# Altium schematic symbol library Resistor.SchLib: 141 symbols (part 4 of 4)
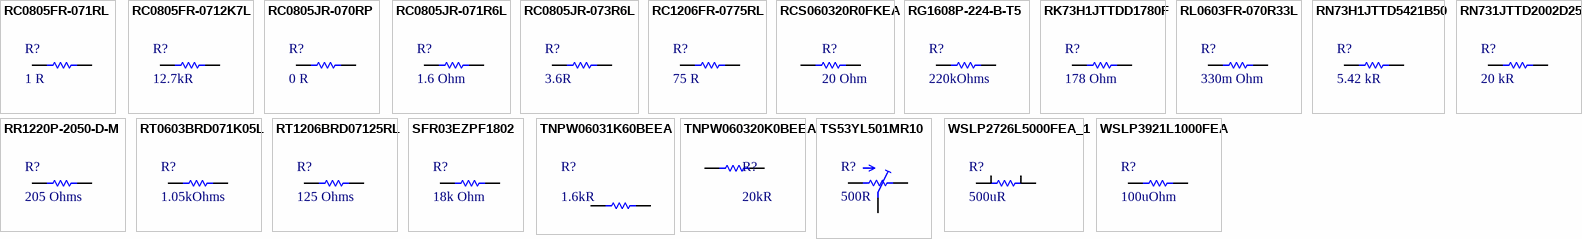
[diagram p6: symbols RC0805FR-071RL to WSLP3921L1000FEA]

## RC0805JR-073R6L
designator R?, comment 3.6R
RES SMD 3.6 OHM 5% 1/8W 0805; Manufacturer: Yageo; Part Number: RC0805JR-073R6L; Temperature Coefficient: 200 PPM / C; Power Rating: 125 mW (1/8 W); Voltage Rating: 150 V; Library Control - Checked Footprint: Yes; Library Control - Person that Checked Footprint: Nikaum; Library Control - Person that Checked Schematic: Guilherme; Library Control - Person that did the Last Update Footprint: Dalarme; Supplier 1: Mouser; Category: Thick Film Resistors - SMD; Price: 1=0,22, 10=0,052, 100=0,018 (USD); Package / Case: 0805 (2012 Metric); Operating Temperature: - 55ºC ~ 155ºC; Value: 3.6R; Tolerance: 5 %; Library Ref: Resistor; Resistor Type: Fixed; Size / Dimension: 2 mm L x  1.25 mm W x  0.5 mm H; Supplier Part Number 1: 603-RC0805JR-073R6L; Library Control - Checked Schematic: Yes; Library Control - Last Update: 27/06/2021; Library Control - Person that did the Last Update Schematic: Dalarme; ComponentLink1Description: Mouser Link; ComponentLink1URL: https://br.mouser.com/ProductDetail/Yageo/RC0805JR-073R6L?qs=%2Fha2pyFadug6QMX%2FAz0gg6vDQGdS7CAkCQQPGuSvuCE1NeYb1xSVR9wH6bdWx1Yz; ComponentLink2Description: Datasheet; ComponentLink2URL: https://br.mouser.com/datasheet/2/447/Yageo_03_18_2021_PYu_RC_Group_51_RoHS_L_11-2199992.pdf
footprint RESISTOR_0805
pins: 1, 2

## RC1206FR-0775RL
designator R?, comment 75 R
RES SMD 75 OHM 1% 1/4W 1206; Manufacturer: Yageo; Part Number: RC1206FR-0775RL; Temperature Coefficient: 100 PPM / C; Power Rating: 250mW (1/4 W); Voltage Rating: 200 V; Library Control - Checked Footprint: Yes; Library Control - Person that Checked Footprint: Nikaum; Library Control - Person that did the Last Update Footprint: Nicolas; Supplier 1: Mouser; Category: Thick Film Resistors - SMD; Price: 1 = 0,10, 10 = 0,054, 100 = 0,021 (USD); Package / Case: 1206 (3216 metric); Operating Temperature: - 55 C~155 C; Value: 75 R; Tolerance: 1 %; Library Ref: Resistor; Resistor Type: Fixo; Size / Dimension: 3,10 L x 1,60 W x 0,55 H; Supplier Part Number 1: 603-RC1206FR-0775RL; Library Control - Checked Schematic: Yes; Library Control - Last Update: 27/06/2021 21:20; Library Control - Person that Checked Schematic: Nikaum; Library Control - Person that did the Last Update Schematic: Nikaum; ComponentLink1Description: Mouser Link; ComponentLink1URL: https://br.mouser.com/ProductDetail/Yageo/RC1206FR-0775RL?qs=afJZr%2F7kGG4KmMC4hsrAjg%3D%3D; ComponentLink2Description: Datasheet Link; ComponentLink2URL: https://www.mouser.com/datasheet/2/447/Yageo_03_18_2021_PYu_RC_Group_51_RoHS_L_11-2199992.pdf
footprint RESISTOR_1206
pins: 1, 2

## RCS060320R0FKEA
designator R?, comment 20 Ohm
RES SMD 20 OHM 1% 1/4W 0603; Manufacturer: Vishay Dale; Manufacturer Part Number: RCS060320R0FKEA; Value: 20R; Max Power Dissipation: 250mW; Temperature Coefficient: 100ppm/°C; Supplier: Mouser; Supplier Part Number: 71-RCS060320R0FKEA; RoHS: Yes; Category: Chip SMD Resistors; Stock: 4900; Pricing: 1=0,13, 10=0,043, 50=0,043, 100=0,026, 1000=0,022, 10000=0,013 (USD); Case/Package: 0603; Case Code (Imperial): 0603; Case Code (Metric): 1608; Min Operating Temperature: -55°C; Max Operating Temperature: 155°C; Package Quantity: 5000; Packaging: Tape and Reel; Number of Terminations: 2; Tolerance: 1%; Features: Automotive AEC-Q200; Series: RCS e3; Length: 0.061inch; Width: 0.033inch; Height: 0.02inch; Ratings: AEC-Q200; ComponentLink1URL: http://www.vishay.com/docs/20065/rcse3.pdf?src-supplier=Digi-Key; ComponentLink1Description: http://www.vishay.com/docs/20065/rcse3.pdf?src-supplier=Digi-Key; ComponentLink2Description: Mouser; ComponentLink2URL: https://br.mouser.com/ProductDetail/Vishay-Dale/RCS060320R0FKEA?qs=sGAEpiMZZMtlubZbdhIBIE5LhqqS5SwHHwPKvfa8Ams%3D
footprint RESISTOR_0603
pins: 1, 2

## RG1608P-224-B-T5
designator R?, comment 220kOhms
RES SMD 220 kOHMS 0,1% 1/10W 0603; Manufacturer: Susumu; Part Number: RG1608P-224-B-T5; Tolerance: 0,1 %; Temperature Coefficient: 25 PPM / C; Power Rating: 100 mW (1/10 W); Voltage Rating: 100 V; Library Control - Checked Footprint: Yes; Library Control - Person that Checked Footprint: Guilherme; Library Control - Person that did the Last Update Footprint: Stéfany (Ster); Supplier 1: Mouser; Category: Thick Film Resistors - SMD; Price: 1=0,36, 10=0,261, 100=0,107(USD); Package / Case: 0603 (1608 Metric); Operating Temperature: - 55°C ~ 155°C; Value: 220kOhms; Library Ref: Resistor; Resistor Type: Fixo; Size / Dimension: 1,6 L x 0,8 W x 0,4 H; Supplier Part Number 1: 754-RG1608P-224-BT5; Library Control - Checked Schematic: Yes; Library Control - Last Update: 06/09/2021 23:26; Library Control - Person that Checked Schematic: Guilherme; Library Control - Person that did the Last Update Schematic: Guilherme; ComponentLink1Description: Mouser Link; ComponentLink1URL: https://br.mouser.com/ProductDetail/Susumu/RG1608P-224-B-T5?qs=%2Fha2pyFadugGZ8qiVjKZw3%2FyFcS5dmvF9YguiNF8xC%252BJU8zG6Xddcw%3D%3D; ComponentLink2Description: Datasheet; ComponentLink2URL: https://br.mouser.com/datasheet/2/392/n_catalog_partition01_en-1140338.pdf
footprint RESISTOR_0603
pins: 1, 2

## RK73H1JTTDD1780F
designator R?, comment 178 Ohm
RES SMD 178 OHM 1% 1/10W 0603; Manufacturer: KOA Speer; Part Number: RK73H1JTTDD1780F; Temperature Coefficient: 200 PPM / C; Power Rating: 100 mW (1/10 W); Voltage Rating: 75 V; Supplier 1: Mouser; Category: Thick Film Resistors - SMD; Price: 1=0,1000, 10=0,0360, 100=0,0120 1000=0,008(USD); Package / Case: 0603 (1608 Metric); Operating Temperature: - 55ºC ~ 155ºC; Value: 178 Ohm; Tolerance: 1%; Library Ref: Resistor; Resistor Type: Fixo; Size / Dimension: 1.6 mm L x  0.8 mm W x  0.45 mm H; Supplier Part Number 1: 660-RK73H1JTTDD1780F; ComponentLink1Description: Mouser Link; ComponentLink1URL: https://br.mouser.com/ProductDetail/KOA-Speer/RK73H1JTTDD1780F?qs=sGAEpiMZZMtlubZbdhIBICPveXeF%252BPGk0gMQ9NztAk8%3D; ComponentLink2Description: Datasheet Link; ComponentLink2URL: https://br.mouser.com/datasheet/2/219/RK73H-1825326.pdf
footprint RESISTOR_0603
pins: 1, 2

## RL0603FR-070R33L
designator R?, comment 330m Ohm
RES SMD 330m OHM 1% 1/10 W 0603; Manufacturer: YAGEO; Part Number: RL0603FR-070R33L; Temperature Coefficient: 800 PPM/C; Power Rating: 1/10 W; Library Control - Person that did the Last Update Footprint: Breno (Omega); Supplier 1: Mouser; Category: Current Sense Resistor; Price: 1 = 0.32, 10 = 0.272, 100 = 0.108(USD); Package / Case: 0603; Operating Temperature: -55°C ~ 155°C; Value: 330m Ohm; Tolerance: 1%; Library Ref: Resistor; Resistor Type: Fixo; Size / Dimension: 0.8mm x 1.6mm x 0.45mm; Supplier Part Number 1: 603-RL0603FR-070R33L; Library Control - Person that did the Last Update Schematic: Breno (Omega); ComponentLink1Description: Mouser Link; ComponentLink1URL: https://br.mouser.com/ProductDetail/YAGEO/RL0603FR-070R33L?qs=BXCcY9r%252B08C6ACa%252BFqk%252BgA%3D%3D; ComponentLink2Description: Datasheet; ComponentLink2URL: https://br.mouser.com/datasheet/2/447/PYu_RL_Group_521_RoHS_L_2-3002987.pdf
footprint RESISTOR_0603
pins: 1, 2

## RN73H1JTTD5421B50
designator R?, comment 5.42 kR
RES SMD 5,42K OHM  0.1% 1/10W 0603; Manufacturer: KOA Speer; Part Number: RN73H1JTTD5421B50; Tolerance: 0,1 %; Temperature Coefficient: 25 PPM / C; Power Rating: 100 mW (1/10 W); Voltage Rating: 75 V; Library Control - Checked Footprint: Yes; Library Control - Person that Checked Footprint: Gustavo Rodrigues; Supplier 1: Mouser; Category: Thick Film Resistors - SMD; Price: 1 = 0.51 , 10 = 0.368, 100 = 0.191 (USD); Package / Case: 0603 (1608 metric); Operating Temperature: -55°C~155°C; Value: 5.42 kR; Library Ref: Resistor; Resistor Type: Fixed; Size / Dimension: 1,55 L x 0,85 W x 0,45 H (mm); Supplier Part Number 1: 660-RN73H1JTD5421B50; Library Control - Checked Schematic: Yes; Library Control - Last Update: 07/10/2022 17:00; ComponentLink1Description: Mouser Link; ComponentLink1URL: https://br.mouser.com/ProductDetail/KOA-Speer/RN731JTTD2002D25?qs=%2Fha2pyFaduhnBZUr2iTGjf%252BDke4dVhJBN0JQvxcPlMafiohhH7zmdQ%3D%3D; ComponentLink2Description: Datasheet Link; ComponentLink2URL: https://br.mouser.com/datasheet/2/219/KOA_Speer_RN73__1_-1894048.pdf
footprint RESISTOR_0603
pins: 1, 2

## RN731JTTD2002D25
designator R?, comment 20 kR
RES SMD 20K OHM 0,5% 1/16W 0603; Manufacturer: KOA Speer; Part Number: RN731JTTD2002D25; Tolerance: 0,5 %; Temperature Coefficient: 25 PPM / C; Power Rating: 62.5mW (1/16 W); Voltage Rating: 75 V; Library Control - Checked Footprint: Yes; Library Control - Person that Checked Footprint: Stéfany (Ster); Library Control - Person that did the Last Update Footprint: Maria Laura; Supplier 1: Mouser; Category: Thick Film Resistors - SMD; Price: 1 = 0,15, 10 = 0,114, 100 = 0,089 (USD); Package / Case: 0603 (1608 metric); Operating Temperature: -55°C~155°C; Value: 20 kR; Library Ref: Resistor; Resistor Type: Fixed; Size / Dimension: 1,55 L x 0,85 W x 0,45 H (mm); Supplier Part Number 1: 660-RN731JTTD2002D25; Library Control - Checked Schematic: Yes; Library Control - Last Update: 15/08/2021 14:46; Library Control - Person that Checked Schematic: Stéfany (Ster); Library Control - Person that did the Last Update Schematic: Maria Laura; ComponentLink1Description: Mouser Link; ComponentLink1URL: https://br.mouser.com/ProductDetail/KOA-Speer/RN731JTTD2002D25?qs=%2Fha2pyFaduhnBZUr2iTGjf%252BDke4dVhJBN0JQvxcPlMafiohhH7zmdQ%3D%3D; ComponentLink2Description: Datasheet Link; ComponentLink2URL: https://br.mouser.com/datasheet/2/219/KOA_Speer_RN73__1_-1894048.pdf
footprint RESISTOR_0603
pins: 1, 2

## RR1220P-2050-D-M
designator R?, comment 205 Ohms
RES SMD 205 OHM 0.5% 1/10 W 0805; Manufacturer: Susumu; Part Number: RR1220P-2050-D-M; Tolerance: 1/2 %; Temperature Coefficient: 25 PPM / C; Power Rating: 100 mW (1/10 W); Voltage Rating: 100V; Library Control - Checked Footprint: Yes; Supplier 1: Mouser; Category: Thick Film Resistors - SMD; Price: 1=0,10, 10=0,024, 100=0,014 (USD); Package / Case: 0805 (2012 Metric); Operating Temperature: - 55°C ~ 155°C; Value: 205 Ohms; Library Ref: Resistor; Resistor Type: Fixo; Size / Dimension: 2,00 L x 1,25 W x 0,50 H; Supplier Part Number 1: 754-RR1220P-2050D-M; Library Control - Checked Schematic: Yes; ComponentLink1Description: Mouser Link; ComponentLink1URL: https://br.mouser.com/ProductDetail/Susumu/RR1220P-2050-D-M?qs=U7dmUkNviFvSGPLn2FAydw%3D%3D; ComponentLink2Description: Datasheet; ComponentLink2URL: https://br.mouser.com/datasheet/2/392/susumu_RR_Data_Sheet-1206438.pdf
footprint RESISTOR_0805
pins: 1, 2

## RT0603BRD071K05L
designator R?, comment 1.05kOhms
RES SMD 1.05K ohm 1% 1/10W 0603; Manufacturer: YAGEO; Part Number: RT0603BRD071K05L; Temperature Coefficient: 25 PPM / C; Power Rating: 100 mW (1/10 W); Voltage Rating: 75 V; Library Control - Checked Footprint: Yes; Library Control - Person that Checked Footprint: Firme; Supplier 1: Mouser; Category: Thick Film Resistors - SMD; Price: 1=0,33, 10=0,274, 100=0,108(USD); Package / Case: 0603 (1608 Metric); Operating Temperature: - 55°C ~ 155°C; Value: 1.05kOhms; Tolerance: 1 %; Library Ref: Resistor; Resistor Type: Fixo; Size / Dimension: 1,6 L x 0,8 W x 0,45 H; Supplier Part Number 1: 603-RT0603BRD071K05L; Library Control - Checked Schematic: Yes; Library Control - Last Update: 16/08/2022 16:13; Library Control - Person that Checked Schematic: Firme; Library Control - Person that did the Last Update Footprint: Firme; Library Control - Person that did the Last Update Schematic: Firme; ComponentLink1Description: Mouser Link; ComponentLink1URL: https://br.mouser.com/ProductDetail/YAGEO/RT0603BRD071K05L?qs=gY0y7AQI9SNBiwMGD44S2g%3D%3D; ComponentLink2Description: Datasheet; ComponentLink2URL: https://br.mouser.com/datasheet/2/447/PYu_RT_1_to_0_01_RoHS_L_12-3003070.pdf
footprint RESC1608X55N
pins: 1, 2

## RT1206BRD07125RL
designator R?, comment 125 Ohms
RES SMD 125 Ohms 1% 1/4W 1206; Manufacturer: Yageo; Part Number: RT1206BRD07125RL; Tolerance: 0.1%; Temperature Coefficient: 100 PPM / C; Power Rating: 250 mW (1/4 W); Voltage Rating: 200 V; Library Control - Person that did the Last Update Footprint: Marcos; Supplier 1: Mouser; Category: Thin Film Resistors - SMD; Price: 1=0,57, 10=0,314, 100=0,145 1000=0,113 (USD); Package / Case: 1206 (3216 Metric); Operating Temperature: - 55ºC ~ 155ºC; Value: 125 Ohms; Library Ref: Resistor; Resistor Type: Fixo; Size / Dimension: 3,1 mm L x 1,6 mm W x 0,55 mm H; Supplier Part Number 1: 603-RT1206BRD07125RL; Library Control - Checked Footprint: -; Library Control - Checked Schematic: -; Library Control - Last Project that Used: -; Library Control - Last Update: 06/08/21 15:47; Library Control - Person that Checked Footprint: -; Library Control - Person that Checked Schematic: -; Library Control - Person that did the Last Update Schematic: Marcos; ComponentLink1Description: Mouser Link; ComponentLink1URL: https://www.mouser.com/ProductDetail/YAGEO/RT1206BRD07125RL?qs=sGAEpiMZZMtlubZbdhIBIPU1hQNSiwk57Pf%2FC1Ta7Aw%3D; ComponentLink2Description: Datasheet Link; ComponentLink2URL: https://www.mouser.com/datasheet/2/447/PYu_RT_1_to_0_01_RoHS_L_11-1669912.pdf
footprint RESISTOR_1206
pins: 1, 2

## SFR03EZPF1802
designator R?, comment 18k Ohm
RES SMD 18k OHM 1% 1/10 W 0603; Manufacturer: ROHM Semiconductor; Part Number: SFR03EZPF1802; Temperature Coefficient: 100 PPM/C; Power Rating: 1/10 W; Voltage Rating: 50 V; Library Control - Person that did the Last Update Footprint: Breno (Omega); Supplier 1: Mouser; Category: Thick Film Resistor; Price: 1 = 0.11, 10 = 0.094, 100 = 0.037(USD); Package / Case: 0603; Operating Temperature: -55°C ~ 155°C; Value: 18k Ohm; Tolerance: 1%; Library Ref: Resistor; Resistor Type: Fixo; Size / Dimension: 0.8mm x 1.6mm x 0.45mm; Supplier Part Number 1: 755-SFR03EZPF1802; Library Control - Person that did the Last Update Schematic: Breno (Omega); ComponentLink1Description: Mouser Link; ComponentLink1URL: https://br.mouser.com/ProductDetail/ROHM-Semiconductor/SFR03EZPF1802?qs=%2Fha2pyFadujIP5R71V11KKMCski6Orl7dPpAZK1GcyEZfz5vcBfR%252BbHEkEFZRASe; ComponentLink2Description: Datasheet; ComponentLink2URL: https://br.mouser.com/datasheet/2/348/ROHM_S_A0009648217_1-2563033.pdf
footprint RESISTOR_0603
pins: 1, 2

## TNPW06031K60BEEA
designator R?, comment 1.6kR
RES SMD 1.6K OHM 1% 1/8W 0603; Manufacturer: Vishay Dale; Manufacturer Part Number: TNPW06031K60BEEA; Manufacturer Series: TNPW; Tolerance: 0.1%; Power: 100mW; Rated Temperature: 70°C; Temperature Coefficient: 25ppm/°C; Working Voltage: 75V; Supplier: Mouser; Supplier Part Number: 71-TNPW06031K60BEEA; RoHS: Yes; Category: Chip SMD Resistors; Stock: 10938; Pricing: 1=0,38, 10=0,272, 50=0,21, 100=0,187, 1000=0,122, 10000=0,103 (USD); Mounting Technology: Surface Mount; Pins: 2; Package Shape: Rectangular; Case/Package: 0603; Terminal Finish: Tin; Min Operating Temperature: -55°C; Max Operating Temperature: 125°C; JESD-609 Code: e3; Resistor Type: FIXED RESISTOR; Packaging: Tape and Reel; Value: 1.6kR; Technology: THIN FILM; Termination: Wraparound; Reach SVHC Compliant: Yes; RoHS Compliant: Yes; ComponentLink1URL: https://datasheet.ciiva.com:443/pdfs/VipMasterIC/IC/DALE/DALES05753/DALES05753-1.pdf?src-supplier=IHS+Markit; ComponentLink1Description: https://datasheet.ciiva.com:443/pdfs/VipMasterIC/IC/DALE/DALES05753/DALES05753-1.pdf?src-supplier=IHS+Markit; ComponentLink2URL: https://datasheet.ciiva.com/2603/tnpw-e3-2603639.pdf?src-supplier=Digikey; ComponentLink2Description: https://datasheet.ciiva.com/2603/tnpw-e3-2603639.pdf?src-supplier=Digikey; ComponentLink3URL: https://datasheet.ciiva.com/9099/tnpw-e3-9099356.pdf?src-supplier=Avnet; ComponentLink3Description: https://datasheet.ciiva.com/9099/tnpw-e3-9099356.pdf?src-supplier=Avnet
footprint RESISTOR_0603
pins: 1, 2

## TNPW060320K0BEEA
designator R?, comment 20kR
RES SMD 20K OHM 1% 1/8W 0603; Manufacturer: Vishay Dale; Manufacturer Part Number: TNPW060320K0BEEA; Manufacturer Series: TNPW; Tolerance: 0.1%; Power: 100mW; Rated Temperature: 70°C; Temperature Coefficient: 25ppm/°C; Working Voltage: 75V; Supplier: Mouser; Supplier Part Number: 71-TNPW060320K0BEEA; RoHS: Yes; Category: Chip SMD Resistors; Stock: 70364; Pricing: 1=0,38, 10=0,247, 50=0,207, 100=0,182, 1000=0,123, 10000=0,1 (USD); Mounting Technology: Surface Mount; Pins: 2; Package Shape: Rectangular; Case/Package: 0603; Terminal Finish: Tin; Min Operating Temperature: -55°C; Max Operating Temperature: 125°C; JESD-609 Code: e3; Resistor Type: FIXED RESISTOR; Packaging: Tape and Reel; Value: 20kR; Technology: THIN FILM; Termination: Wraparound; Reach SVHC Compliant: Yes; RoHS Compliant: Yes; ComponentLink1URL: https://datasheet.ciiva.com:443/pdfs/VipMasterIC/IC/DALE/DALES05753/DALES05753-1.pdf?src-supplier=IHS+Markit; ComponentLink1Description: https://datasheet.ciiva.com:443/pdfs/VipMasterIC/IC/DALE/DALES05753/DALES05753-1.pdf?src-supplier=IHS+Markit; ComponentLink2URL: https://datasheet.ciiva.com/28621/1599293-28621609.pdf?src-supplier=Element14; ComponentLink2Description: https://datasheet.ciiva.com/28621/1599293-28621609.pdf?src-supplier=Element14; ComponentLink3URL: https://datasheet.ciiva.com/2483/tnpw-e3-2483310.pdf?src-supplier=Digikey; ComponentLink3Description: https://datasheet.ciiva.com/2483/tnpw-e3-2483310.pdf?src-supplier=Digikey; ComponentLink4URL: https://datasheet.ciiva.com/2483/tnpw-e3-2483311.pdf?src-supplier=Digikey; ComponentLink4Description: https://datasheet.ciiva.com/2483/tnpw-e3-2483311.pdf?src-supplier=Digikey; ComponentLink5URL: https://datasheet.ciiva.com/2483/tnpw-e3-2483312.pdf?src-supplier=Digikey; ComponentLink5Description: https://datasheet.ciiva.com/2483/tnpw-e3-2483312.pdf?src-supplier=Digikey; ComponentLink6URL: https://datasheet.ciiva.com/15159/getdatasheetpartid-71466-15159723.pdf?src-supplier=Verical; ComponentLink6Description: https://datasheet.ciiva.com/15159/getdatasheetpartid-71466-15159723.pdf?src-supplier=Verical; ComponentLink7URL: https://datasheet.ciiva.com/16225/tnpw-e3-16225719.pdf?src-supplier=Future+Electronics; ComponentLink7Description: https://datasheet.ciiva.com/16225/tnpw-e3-16225719.pdf?src-supplier=Future+Electronics; ComponentLink8URL: https://datasheet.ciiva.com/7743/tnpw-e3-7743805.pdf?src-supplier=Element14; ComponentLink8Description: https://datasheet.ciiva.com/7743/tnpw-e3-7743805.pdf?src-supplier=Element14; ComponentLink9URL: https://datasheet.ciiva.com/16761/70201627-16761293.pdf?src-supplier=Allied+Electronics; ComponentLink9Description: https://datasheet.ciiva.com/16761/70201627-16761293.pdf?src-supplier=Allied+Electronics; ComponentLink10URL: https://datasheet.ciiva.com/16771/70201627-16771037.pdf?src-supplier=Allied+Electronics; ComponentLink10Description: https://datasheet.ciiva.com/16771/70201627-16771037.pdf?src-supplier=Allied+Electronics
footprint RESISTOR_0603
pins: 1, 2

## TS53YL501MR10
designator R?, comment 500R
RES SMD 500 OHM 20% 1/4W TRIMMER; Manufacturer: Vishay / Sfernice; Part Number: TS53YL501MR10; Temperature Coefficient: 100 PPM / C; Power Rating: 250 mW (1/4 W); Voltage Rating: 11.2 V; Library Control - Checked Footprint: Yes; Library Control - Person that Checked Footprint: Nikaum; Library Control - Person that Checked Schematic: Guilherme; Library Control - Person that did the Last Update Footprint: Dalarme; Supplier 1: Mouser; Category: Trimmer Resistors - SMD; Price: 1=1,35, 100=1,30, 200=1,25 (USD); Package / Case: Trimmer; Operating Temperature: - 55ºC ~ 125ºC; Value: 500R; Tolerance: 20 %; Library Ref: Resistor; Resistor Type: Variable; Size / Dimension: 5 mm L x  5 mm W x  2.7 mm H; Supplier Part Number 1: 72-TS53YL-500; Library Control - Checked Schematic: Yes; Library Control - Last Update: 27/06/2021 20:25; Library Control - Person that did the Last Update Schematic: Nikaum; ComponentLink1Description: Mouser Link; ComponentLink1URL: https://www.mouser.com/ProductDetail/Vishay-Sfernice/TS53YL501MR10?qs=sGAEpiMZZMvygUB3GLcD7vuChgoywSWuNIBkcGPvSRs%3D; ComponentLink2Description: Datasheet; ComponentLink2URL: https://www.mouser.com/datasheet/2/427/ts53-1763731.pdf
footprint RESISTOR_TRIMMER
pins: P$1 A, P$2 B, P$3 C

## WSLP2726L5000FEA_1
designator R?, comment 500uR
RES SMD 500U OHM 1% 7W SHUNT; Manufacturer: Vishay / Dale; Part Number: WSLP2726L5000FEA; Temperature Coefficient: 75 PPM / C; Voltage Rating: Not voltage sensitive; Library Control - Checked Footprint: No; Library Control - Checked Schematic: Yes; Library Control - Person that Checked Schematic: Marcos; Library Control - Person that did the Last Update Footprint: Dalarme; Supplier 1: Mouser; Category: Current Sense Resistors - SMD; Price: 1=2,90, 10=2,57, 100=1,97 (USD); Package / Case: Shunt; Operating Temperature: - 65ºC ~ 170ºC; Value: 500uR; Tolerance: 1%; Power Rating: 7 W; Library Ref: Resistor; Resistor Type: Fixo; Size / Dimension: 6.9 mm L x  6.6 mm W x  3.81 mm H; Supplier Part Number 1: 71-WSLP2726L5000FEA; Library Control - Last Update: 20/06/21 15:27; Library Control - Person that did the Last Update Schematic: Marcos; ComponentLink1Description: Mouser Link; ComponentLink1URL: https://www.mouser.com/ProductDetail/Vishay-Dale/WSLP2726L5000FEA?qs=H%252BW4FWGGyHeDwweg1TYd4Q%3D%3D; ComponentLink2Description: Datasheet link; ComponentLink2URL: https://www.mouser.com/datasheet/2/427/wslp2726-1762042.pdf
footprint RESISTOR_SHUNT
pins: 1, 2, V+, V-

## WSLP3921L1000FEA
designator R?, comment 100uOhm
RES SMD 0.1m OHM 1% 9W SHUNT; Manufacturer: Vishay / Dale; Part Number: WSLP3921L1000FEA; Temperature Coefficient: 75 PPM / C; Voltage Rating: Not voltage sensitive; Library Control - Checked Footprint: No; Library Control - Checked Schematic: Yes; Supplier 1: Mouser; Category: Current Sense Resistors - SMD; Price: 1=2,90, 10=2,57, 100=1,97 (USD); Package / Case: Shunt; Operating Temperature: - 65ºC ~ 170ºC; Value: 100uOhm; Tolerance: 1%; Power Rating: 9W; Library Ref: Resistor; Resistor Type: Fixo; Size / Dimension: 6.9 mm L x  6.6 mm W x  3.81 mm H; Supplier Part Number 1: 71-WSLP2726L5000FEA; ComponentLink1Description: Mouser Link; ComponentLink1URL: https://br.mouser.com/ProductDetail/Vishay-Dale/WSLP3921L1000FEA?qs=TiOZkKH1s2S5b3T%252BuIp%2FVQ%3D%3D; ComponentLink2Description: Datasheet link; ComponentLink2URL: https://br.mouser.com/datasheet/2/427/wslp3921_wslp5931-1762961.pdf
footprint RESC10052X50N
pins: 1, 2